# Altium footprint library EC1110120201.PcbLib: 1 footprints
Each footprint in its own frame and in the unit in brackets; x right, y up, seen from the top. Pads: shape width x height; smd on the part's side, far side on the other; paste and mask are expansions set on the pad; w line width, h text height; cw(c..) or ccw(c..) is an arc to the next point about the centre after c.
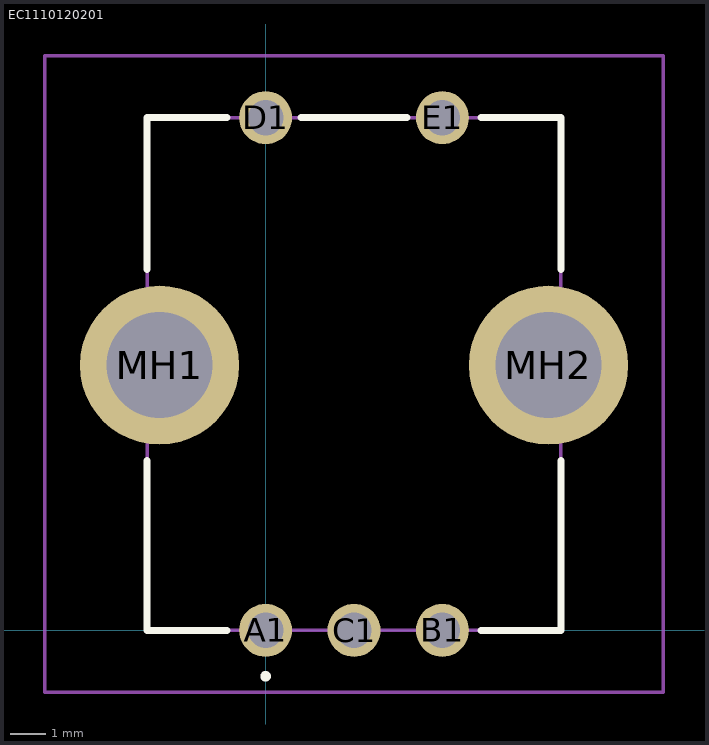
[diagram p0: the footprint, top view; thin cyan lines are the x and y axes]

## EC1110120201 [mm]
pads (7):
  round 1.5 hole 1: A1(0,0) B1(5,0) C1(2.5,0) D1(0,14.5) E1(5,14.5)
  round 4.5 hole 3: MH1(-3,7.5) MH2(8,7.5)
Top Overlay:
  lines w0.2: -3.35,4.8 -3.35,0 -1.1,0 ; -3.35,10.2 -3.35,14.5 -1.1,14.5 ; 1,14.5 4,14.5 ; 6.1,0 8.35,0 8.35,4.8 ; 6.1,14.5 8.35,14.5 8.35,10.2 ; 0,-1.35 cw(c0,-1.3) 0,-1.25 ; 0,-1.35 0,-1.35 ; 0,-1.35 ccw(c0,-1.3) 0,-1.25 ; 0,-1.35 cw(c0,-1.3) 0,-1.25 ; 0,-1.25 0,-1.25 ; 0,-1.25 0,-1.25
Mechanical 15:
  lines w0.1: -3.35,0 8.35,0 8.35,14.5 -3.35,14.5 -3.35,0
Mechanical 20:
  lines w0.1: -6.25,-1.75 11.25,-1.75 11.25,16.25 -6.25,16.25 -6.25,-1.75